# Altium schematic symbol library dc_dc_converter.SchLib: 6 symbols
Pins are listed as number, name and electrical type; pins without a type are passive.

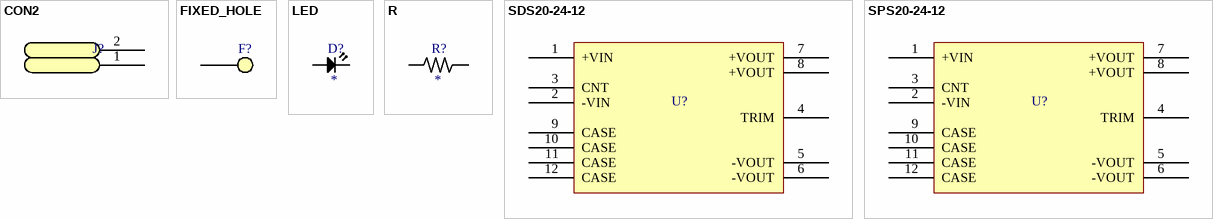
[diagram p0: symbols CON2 to SPS20-24-12]

## CON2
designator J?  (value not drawn)
Generic Connector 2 Pin
footprint DG128-5.0-02P
pins: 1 "Generic Connector 2 Pin", 2 "Generic Connector 2 Pin"

## FIXED_HOLE
designator F?  (value not drawn)
footprint FIXED_HOLE_PAD
pins: 1

## LED
designator D?
Typical LED; Value: *
footprint LED1608L
pins: 1, 2

## R
designator R?
Resistor; Value: *
footprint RES1608L
pins: 1, 2

## SDS20-24-12
designator U?  (value not drawn)
footprint SDS20-24-12
pins: 1 +VIN, 2 -VIN, 3 CNT, 4 TRIM, 5 -VOUT, 6 -VOUT, 7 +VOUT, 8 +VOUT, 9 CASE, 10 CASE, 11 CASE, 12 CASE

## SPS20-24-12
designator U?  (value not drawn)
footprint SPS20-24-12
pins: 1 +VIN, 2 -VIN, 3 CNT, 4 TRIM, 5 -VOUT, 6 -VOUT, 7 +VOUT, 8 +VOUT, 9 CASE, 10 CASE, 11 CASE, 12 CASE